# Altium footprint library Robsense_lxxu.PcbLib: 67 footprints (part 2 of 5)
Each footprint in its own frame and in the unit in brackets; x right, y up, seen from the top. Pads: shape width x height; smd on the part's side, far side on the other; paste and mask are expansions set on the pad; w line width, h text height; cw(c..) or ccw(c..) is an arc to the next point about the centre after c.
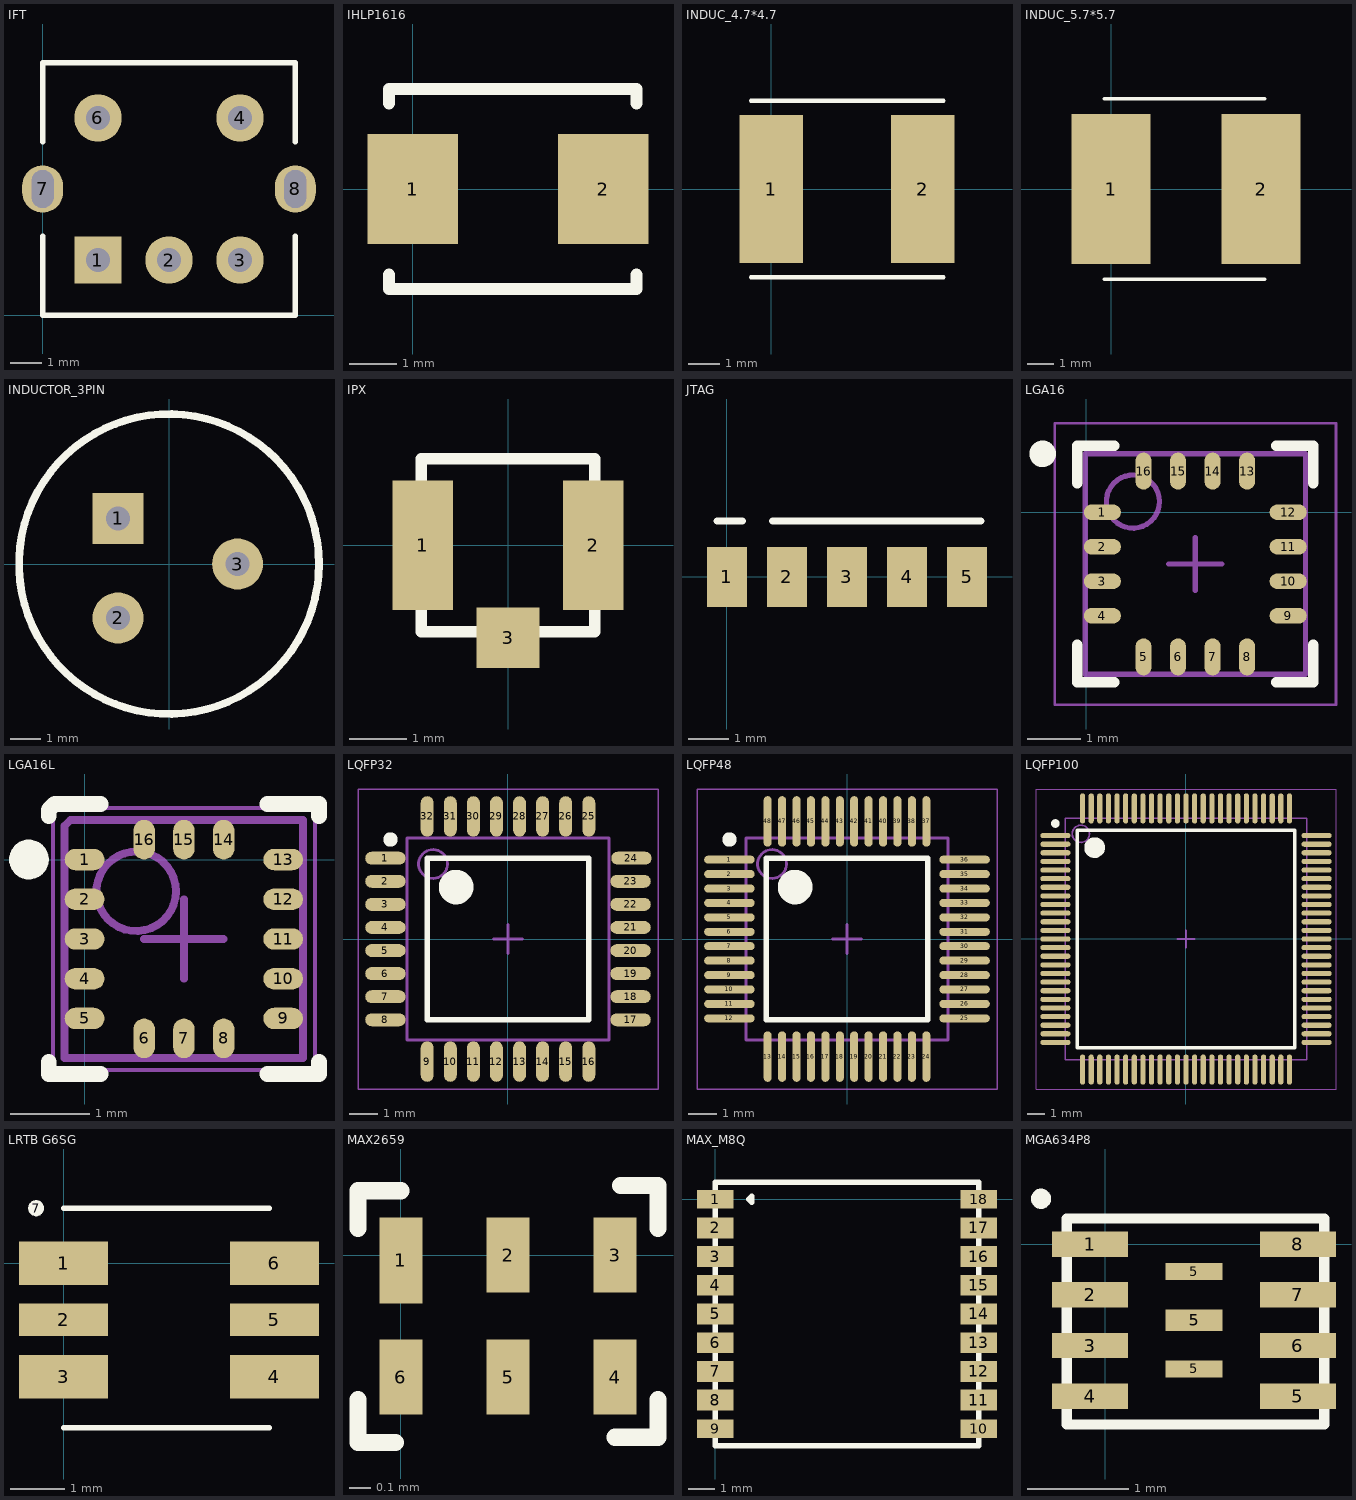
[diagram p1: the footprints below, top view; thin cyan lines are the x and y axes]

## IFT [mm]
pads (7):
  rect 1.5x1.5 hole 0.75: 1(1.75,1.75)
  round 1.5 hole 0.75: 2(4,1.75) 3(6.25,1.75) 4(6.25,6.25) 6(1.75,6.25)
  oval 1.3x1.5 hole 0.7 slot 1.2 at 90 deg: 7(0,4) 8(8,4)
Top Overlay:
  lines w0.178: 0,2.5 0,0 8,0 8,2.5 ; 0,5.5 0,8 8,8 8,5.5

## IHLP1616 [mm]
pads (2):
  rect 1.9x2.3 smd: 1(0,0) 2(4,0)
Top Overlay:
  lines w0.254: -0.5,-1.8 -0.5,-2.1 4.7,-2.1 4.7,-1.8 ; -0.5,1.8 -0.5,2.1 4.7,2.1 4.7,1.8

## INDUC_4.7*4.7 [mm]
pads (2):
  rect 2x4.7 smd: 1(0,0) 2(4.8,0)
Top Overlay:
  lines w0.13: -0.635,-2.794 5.461,-2.794 ; -0.635,2.794 5.461,2.794

## INDUC_5.7*5.7 [mm]
pads (2):
  rect 3x5.7 smd: 1(0,0) 2(5.7,0)
Top Overlay:
  lines w0.13: -0.254,-3.429 5.842,-3.429 ; -0.254,3.429 5.842,3.429

## INDUCTOR_3PIN [mm]
pads (3):
  rect 1.7x1.7 hole 0.8: 1(-1.7,1.524)
  round 1.7 hole 0.8: 2(-1.7,-1.8) 3(2.286,0)
Top Overlay:
  circle w0.254: c0,0 r5

## IPX [mm]
pads (3):
  rect 1.05x2.25 smd: 1(-1.475,0) 2(1.475,0)
  rect 1.1x1.05 smd: 3(0,-1.6)
Top Overlay:
  lines w0.2: -1.5,-1.5 1.5,-1.5 1.5,1.5 -1.5,1.5 -1.5,-1.5

## JTAG [mm]
pads (5):
  rect 1x1.5 smd: 1(0,0) 2(1.5,0) 3(3,0) 4(4.5,0) 5(6,0)
Top Overlay:
  lines w0.178: -0.254,1.397 0.381,1.397 ; 1.143,1.397 6.35,1.397

## LGA16 [mm] "QFN, 16-Leads, Body 4.00x4.00mm, Pitch 0.65mm, IPC Medium Density"
height 1
pads (16):
  oval 0.7x0.3 smd: 1(0.3,0) 2(0.3,-0.65) 3(0.3,-1.3) 4(0.3,-1.95) 9(3.8,-1.95) 10(3.8,-1.3) 11(3.8,-0.65) 12(3.8,0)
  oval 0.3x0.7 smd: 5(1.075,-2.725) 6(1.725,-2.725) 7(2.375,-2.725) 8(3.025,-2.725) 13(3.025,0.775) 14(2.375,0.775) 15(1.725,0.775) 16(1.075,0.775)
Top Overlay:
  circle w0.25: c-0.825,1.1 r0.125
  lines w0.2: -0.175,-2.5 -0.175,-3.2 0.525,-3.2 ; -0.175,0.55 -0.175,1.25 0.525,1.25 ; 3.575,-3.2 4.275,-3.2 4.275,-2.5 ; 3.575,1.25 4.275,1.25 4.275,0.55
Mechanical 13:
  circle w0.1: c0.875,0.2 r0.5
  lines w0.1: -0.025,-3.05 -0.025,1.1 4.125,1.1 4.125,-3.05 -0.025,-3.05
Mechanical 15:
  lines w0.05: -0.6,-3.625 -0.6,1.675 4.7,1.675 4.7,-3.625 -0.6,-3.625
  lines w0.1: 1.55,-0.975 2.55,-0.975 ; 2.05,-1.475 2.05,-0.475
3D body: height 1, standoff 0.2, extent -0.025,-3.05 4.125,1.1

## LGA16L [mm] "LCC, 16-Pins, Body 3.00x3.00mmx1.00mm, Pitch 0.50mm, IPC Medium Density"
height 1
pads (16):
  oval 0.5x0.27 smd: 1(0,0) 2(0,-0.5) 3(0,-1) 4(0,-1.5) 5(0,-2) 9(2.5,-2) 10(2.5,-1.5) 11(2.5,-1) 12(2.5,-0.5) 13(2.5,0)
  oval 0.27x0.5 smd: 6(0.75,-2.25) 7(1.25,-2.25) 8(1.75,-2.25) 14(1.75,0.25) 15(1.25,0.25) 16(0.75,0.25)
Top Overlay:
  circle w0.25: c-0.7,0 r0.125
  lines w0.2: -0.45,-2.55 -0.45,-2.7 0.2,-2.7 ; -0.45,0.55 -0.45,0.625 -0.375,0.7 0.2,0.7 ; 2.3,-2.7 2.95,-2.7 2.95,-2.55 ; 2.3,0.7 2.95,0.7 2.95,0.55
Mechanical 13:
  circle w0.1: c0.65,-0.4 r0.5
  lines w0.1: -0.25,-2.5 -0.25,0.425 -0.175,0.5 2.75,0.5 2.75,-2.5 -0.25,-2.5
Mechanical 15:
  lines w0.05: -0.4,-2.65 -0.4,0.65 2.9,0.65 2.9,-2.65 -0.4,-2.65
  lines w0.1: 0.75,-1 1.75,-1 ; 1.25,-1.5 1.25,-0.5
3D body: height 1, standoff 0, extent -0.25,-2.5 2.75,0.5

## LQFP32 [mm]
pads (32):
  oval 1.4x0.45 smd: 1(-4.25,2.8) 2(-4.25,2) 3(-4.25,1.2) 4(-4.25,0.4) 5(-4.25,-0.4) 6(-4.25,-1.2) 7(-4.25,-2) 8(-4.25,-2.8) 17(4.25,-2.8) 18(4.25,-2) 19(4.25,-1.2) 20(4.25,-0.4) 21(4.25,0.4) 22(4.25,1.2) 23(4.25,2) 24(4.28,2.8)
  oval 0.45x1.4 smd: 9(-2.8,-4.25) 10(-2,-4.25) 11(-1.2,-4.25) 12(-0.4,-4.25) 13(0.4,-4.25) 14(1.2,-4.25) 15(2,-4.25) 16(2.8,-4.25) 25(2.8,4.25) 26(2,4.25) 27(1.2,4.25) 28(0.4,4.25) 29(-0.4,4.25) 30(-1.2,4.25) 31(-2,4.25) 32(-2.8,4.25)
Top Overlay:
  circle w0.6: c-1.8,1.8 r0.3
  circle w0.25: c-4.075,3.45 r0.125
  lines w0.2: -2.8,-2.8 2.8,-2.8 2.8,2.8 -2.8,2.8 -2.8,-2.8
Mechanical 13:
  circle w0.1: c-2.6,2.6 r0.5
  lines w0.1: -3.5,-3.5 3.5,-3.5 3.5,3.5 -3.5,3.5 -3.5,-3.5
Mechanical 15:
  lines w0.05: -5.2,-5.2 5.2,-5.2 5.2,5.2 -5.2,5.2 -5.2,-5.2
  lines w0.1: -0.5,0 0.5,0 ; 0,-0.5 0,0.5
3D body: height 1.5, standoff 0.1, extent -3.5,-3.5 3.5,3.5

## LQFP48 [mm] "TSQFP, 48-Leads, Body 7.00x7.00mm, Pitch 0.50mm, IPC Medium Density"
height 1.5
pads (48):
  oval 1.75x0.28 smd: 1(-4.075,2.75) 2(-4.075,2.25) 3(-4.075,1.75) 4(-4.075,1.25) 5(-4.075,0.75) 6(-4.075,0.25) 7(-4.075,-0.25) 8(-4.075,-0.75) 9(-4.075,-1.25) 10(-4.075,-1.75) 11(-4.075,-2.25) 12(-4.075,-2.75) 25(4.075,-2.75) 26(4.075,-2.25) 27(4.075,-1.75) 28(4.075,-1.25) 29(4.075,-0.75) 30(4.075,-0.25) 31(4.075,0.25) 32(4.075,0.75) 33(4.075,1.25) 34(4.075,1.75) 35(4.075,2.25) 36(4.075,2.75)
  oval 0.28x1.75 smd: 13(-2.75,-4.075) 14(-2.25,-4.075) 15(-1.75,-4.075) 16(-1.25,-4.075) 17(-0.75,-4.075) 18(-0.25,-4.075) 19(0.25,-4.075) 20(0.75,-4.075) 21(1.25,-4.075) 22(1.75,-4.075) 23(2.25,-4.075) 24(2.75,-4.075) 37(2.75,4.075) 38(2.25,4.075) 39(1.75,4.075) 40(1.25,4.075) 41(0.75,4.075) 42(0.25,4.075) 43(-0.25,4.075) 44(-0.75,4.075) 45(-1.25,4.075) 46(-1.75,4.075) 47(-2.25,4.075) 48(-2.75,4.075)
Top Overlay:
  circle w0.6: c-1.8,1.8 r0.3
  circle w0.25: c-4.075,3.45 r0.125
  lines w0.2: -2.8,-2.8 2.8,-2.8 2.8,2.8 -2.8,2.8 -2.8,-2.8
Mechanical 13:
  circle w0.1: c-2.6,2.6 r0.5
  lines w0.1: -3.5,-3.5 3.5,-3.5 3.5,3.5 -3.5,3.5 -3.5,-3.5
Mechanical 15:
  lines w0.05: -5.2,-5.2 5.2,-5.2 5.2,5.2 -5.2,5.2 -5.2,-5.2
  lines w0.1: -0.5,0 0.5,0 ; 0,-0.5 0,0.5
3D body: height 1.5, standoff 0.1, extent -3.5,-3.5 3.5,3.5

## LQFP100 [mm] "TSQFP, 100-Leads, Body 14.00x14.00mm, Pitch 0.50mm, IPC Medium Density"
height 1.6
pads (100):
  oval 1.75x0.3 smd: 1(-7.575,6) 2(-7.575,5.5) 3(-7.575,5) 4(-7.575,4.5) 5(-7.575,4) 6(-7.575,3.5) 7(-7.575,3) 8(-7.575,2.5) 9(-7.575,2) 10(-7.575,1.5) 11(-7.575,1) 12(-7.575,0.5) 13(-7.575,0) 14(-7.575,-0.5) 15(-7.575,-1) 16(-7.575,-1.5) 17(-7.575,-2) 18(-7.575,-2.5) 19(-7.575,-3) 20(-7.575,-3.5) 21(-7.575,-4) 22(-7.575,-4.5) 23(-7.575,-5) 24(-7.575,-5.5) 25(-7.575,-6) 51(7.575,-6) 52(7.575,-5.5) 53(7.575,-5) 54(7.575,-4.5) 55(7.575,-4) 56(7.575,-3.5) 57(7.575,-3) 58(7.575,-2.5) 59(7.575,-2) 60(7.575,-1.5) 61(7.575,-1) 62(7.575,-0.5) 63(7.575,0) 64(7.575,0.5) 65(7.575,1) 66(7.575,1.5) 67(7.575,2) 68(7.575,2.5) 69(7.575,3) 70(7.575,3.5) 71(7.575,4) 72(7.575,4.5) 73(7.575,5) 74(7.575,5.5) 75(7.575,6)
  oval 0.3x1.75 smd: 26(-6,-7.575) 27(-5.5,-7.575) 28(-5,-7.575) 29(-4.5,-7.575) 30(-4,-7.575) 31(-3.5,-7.575) 32(-3,-7.575) 33(-2.5,-7.575) 34(-2,-7.575) 35(-1.5,-7.575) 36(-1,-7.575) 37(-0.5,-7.575) 38(0,-7.575) 39(0.5,-7.575) 40(1,-7.575) 41(1.5,-7.575) 42(2,-7.575) 43(2.5,-7.575) 44(3,-7.575) 45(3.5,-7.575) 46(4,-7.575) 47(4.5,-7.575) 48(5,-7.575) 49(5.5,-7.575) 50(6,-7.575) 76(6,7.575) 77(5.5,7.575) 78(5,7.575) 79(4.5,7.575) 80(4,7.575) 81(3.5,7.575) 82(3,7.575) 83(2.5,7.575) 84(2,7.575) 85(1.5,7.575) 86(1,7.575) 87(0.5,7.575) 88(0,7.575) 89(-0.5,7.575) 90(-1,7.575) 91(-1.5,7.575) 92(-2,7.575) 93(-2.5,7.575) 94(-3,7.575) 95(-3.5,7.575) 96(-4,7.575) 97(-4.5,7.575) 98(-5,7.575) 99(-5.5,7.575) 100(-6,7.575)
Top Overlay:
  circle w0.25: c-7.575,6.7 r0.125
  circle w0.6: c-5.3,5.3 r0.3
  lines w0.2: -6.3,-6.3 -6.3,6.3 6.3,6.3 6.3,-6.3 -6.3,-6.3
Mechanical 13:
  circle w0.1: c-6.1,6.1 r0.5
  lines w0.1: -7,-7 -7,7 7,7 7,-7 -7,-7
Mechanical 15:
  lines w0.05: -8.7,-8.7 -8.7,8.7 8.7,8.7 8.7,-8.7 -8.7,-8.7
  lines w0.1: -0.5,0 0.5,0 ; 0,-0.5 0,0.5
3D body: height 1.6, standoff 0.15, extent -7,-7 7,7

## LRTB G6SG [mm]
pads (7):
  rect 1.65x0.8 smd: 1(0,0) 3(0,-2.1) 4(3.9,-2.1) 6(3.9,0)
  rect 1.65x0.6 smd: 2(0,-1.05) 5(3.9,-1.05)
  round 0.3 on Top Overlay: 7(-0.508,1.016)
Top Overlay:
  lines w0.1: 0,-3.048 3.81,-3.048 ; 0,1.016 3.81,1.016

## MAX2659 [mm]
pads (6):
  rect 0.2x0.4 smd: 1(0,-0.025)
  rect 0.2x0.35 smd: 2(0.5,0) 3(1,0) 4(1,-0.57) 5(0.5,-0.57) 6(0,-0.57)
Top Overlay:
  lines w0.08: -0.2,-0.675 -0.2,-0.875 -0.025,-0.875 ; -0.2,0.125 -0.2,0.3 0,0.3 ; 1,-0.85 1.2,-0.85 1.2,-0.675 ; 1.025,0.325 1.2,0.325 1.2,0.125

## MAX_M8Q [mm]
pads (18):
  rect 1.4x0.7 smd: 1(0,0) 9(0,-8.8) 10(10.1,-8.8) 18(10.1,0)
  rect 1.4x0.8 smd: 2(0,-1.1) 3(0,-2.2) 4(0,-3.3) 5(0,-4.4) 6(0,-5.5) 7(0,-6.6) 8(0,-7.7) 11(10.1,-7.7) 12(10.1,-6.6) 13(10.1,-5.5) 14(10.1,-4.4) 15(10.1,-3.3) 16(10.1,-2.2) 17(10.1,-1.1)
Top Overlay:
  lines w0.2: 0,-9.45 0,0.65 10.1,0.65 10.1,-9.45 0,-9.45 ; 1.27,0 1.397,0.127 1.397,-0.127 1.27,0

## MGA634P8 [mm]
pads (11):
  rect 0.75x0.25 smd: 1(-0.15,0) 2(-0.15,-0.5) 3(-0.15,-1) 4(-0.15,-1.5) 5(1.9,-1.5) 6(1.9,-1) 7(1.9,-0.5) 8(1.9,0)
  rect 0.56x0.17 smd: 5(0.875,-1.23) 5(0.875,-0.27)
  rect 0.56x0.21 smd: 5(0.875,-0.75)
Top Overlay:
  circle w0.1: c-0.635,0.448 r0.05
  lines w0.1: -0.381,-1.778 2.159,-1.778 2.159,0.254 -0.381,0.254 -0.381,-1.778